# Altium footprint library 0.PCB1.PcbLib: 62 footprints (part 3 of 4)
Each footprint in its own frame and in the unit in brackets; x right, y up, seen from the top. Pads: shape width x height; smd on the part's side, far side on the other; paste and mask are expansions set on the pad; w line width, h text height; cw(c..) or ccw(c..) is an arc to the next point about the centre after c.
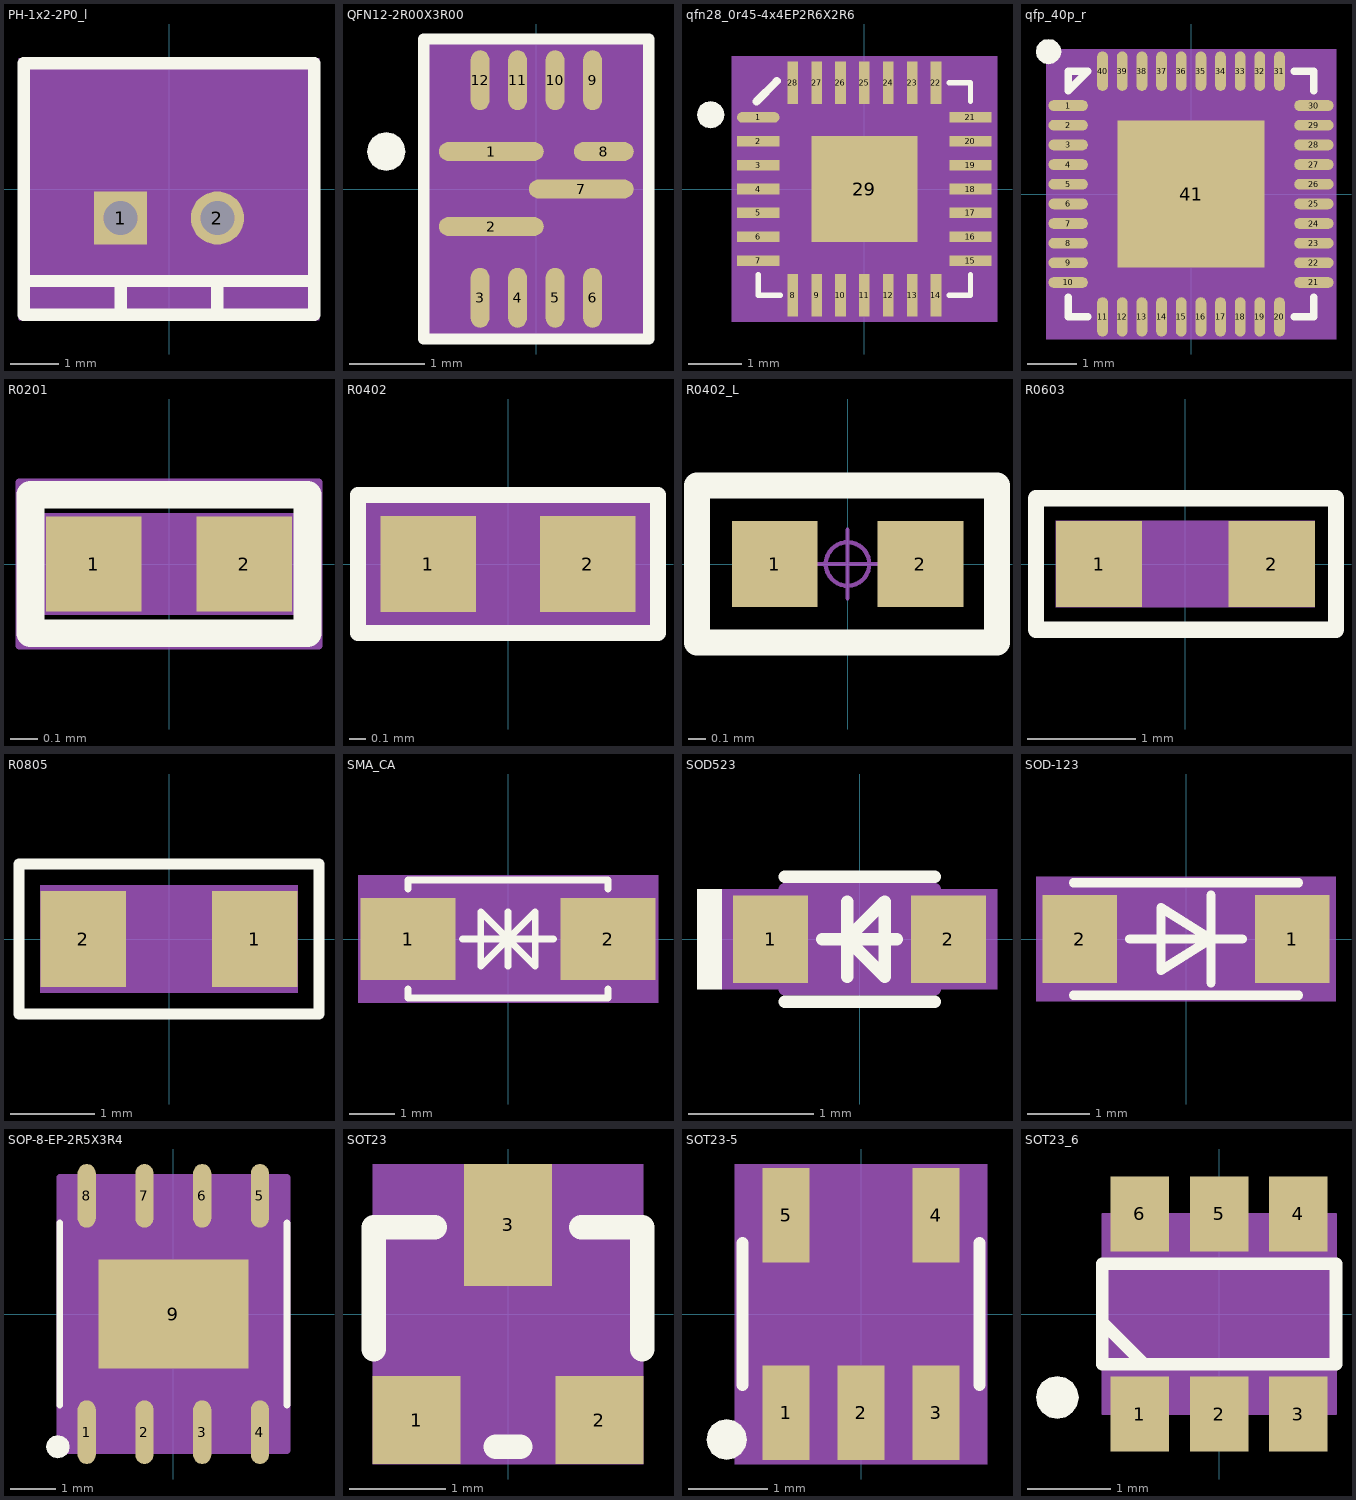
[diagram p2: the footprints below, top view; thin cyan lines are the x and y axes]

## PH-1x2-2P0_l [mm]
pads (2):
  rect 1.1x1.1 hole 0.7: 1(-1,-0.6)
  round 1.1 hole 0.7: 2(1,-0.6)
Top Overlay:
  lines w0.254: -3,-1.9 3,-1.9 ; -1,-2.6 -1,-1.9 ; 1,-2.6 1,-1.9 ; -3,-2.6 3,-2.6 3,2.6 -3,2.6 -3,-2.6
Bottom Overlay:
  lines w0.6: 0,-1.1 0,-0.1
Top 3D Body:
  region: -3.1,2.7 -3.1,-2.7 3.1,-2.7 3.1,2.7
Top Assembly:
  lines w0.025: -3.1,-2.7 3.1,-2.7 3.1,2.7 -3.1,2.7 -3.1,-2.7
3D body: height 3.81, standoff 0, extent -3.1,-2.7 3.1,2.7

## QFN12-2R00X3R00 [mm]
pads (12):
  oval 1.4x0.25 smd: 1(-0.6,0.5) 2(-0.6,-0.5) 7(0.6,0)
  oval 0.25x0.8 smd: 3(-0.75,-1.45) 4(-0.25,-1.45) 5(0.25,-1.45) 6(0.75,-1.45) 9(0.75,1.45) 10(0.25,1.45) 11(-0.25,1.45) 12(-0.75,1.45)
  oval 0.8x0.25 smd: 8(0.9,0.5)
Top Overlay:
  dashed: -1.745,0.5 -1.765,0.598 -1.82,0.68 -1.902,0.735 -2,0.755 -2.098,0.735 -2.125,0.717 -2.18,0.68 -2.235,0.598 -2.255,0.5 -2.235,0.402 -2.18,0.32 -2.125,0.283 -2.098,0.265 -2,0.245 -1.902,0.265 -1.82,0.32 -1.765,0.402
  lines w0.15: -1.5,-2 -1.5,2 1,2 1.5,2 1.5,-2 -1.5,-2
Top 3D Body:
  region: -1.5,2 -1.5,-2 1.5,-2 1.5,2
Top Assembly:
  lines w0.15: -1,-1.5 -1,1.5 1,1.5 1,-1.5 -1,-1.5
3D body: height 3.81, standoff 0, extent -1.5,-2 1.5,2

## qfn28_0r45-4x4EP2R6X2R6 [mm]
pads (29):
  oval 0.8x0.2 smd: 1(-2,1.35)
  rect 0.8x0.2 smd: 2(-2,0.9) 3(-2,0.45) 4(-2,0) 5(-2,-0.45) 6(-2,-0.9) 7(-2,-1.35) 15(2,-1.35) 16(2,-0.9) 17(2,-0.45) 18(2,0) 19(2,0.45) 20(2,0.9) 21(2,1.35)
  rect 0.2x0.8 smd: 8(-1.35,-2) 9(-0.9,-2) 10(-0.45,-2) 11(0,-2) 12(0.45,-2) 13(0.9,-2) 14(1.35,-2) 22(1.35,2) 23(0.9,2) 24(0.45,2) 25(0,2) 26(-0.45,2) 27(-0.9,2) 28(-1.35,2)
  rect 2x2 smd: 29(0,0)
Top Overlay:
  dashed: -2.645,1.4 -2.664,1.498 -2.72,1.58 -2.802,1.636 -2.9,1.655 -2.998,1.636 -3.025,1.617 -3.08,1.58 -3.136,1.498 -3.155,1.4 -3.136,1.302 -3.08,1.22 -3.025,1.183 -2.998,1.164 -2.9,1.145 -2.802,1.164 -2.72,1.22 -2.664,1.302
  lines w0.1: -2,-1.615 -2,-2 -1.587,-2 ; 1.6,-2 2,-2 2,-1.615 ; 1.6,2 2,2 2,1.657
  lines w0.152: -2.032,1.651 -1.651,2.032
Top 3D Body:
  region: -2.5,2.5 -2.5,-2.5 2.5,-2.5 2.5,2.5
Top Assembly:
  lines w0.15: -2,-2 2,-2 2,2 -2,2 -2,-2
3D body: height 3.81, standoff 0, extent -2.5,-2.5 2.5,2.5

## qfp_40p_r [mil]
pads (41):
  oval 31.5x8.66 smd: 1(-98.43,70.87) 2(-98.43,55.12) 3(-98.43,39.37) 4(-98.43,23.62) 5(-98.43,7.87) 6(-98.43,-7.87) 7(-98.43,-23.62) 8(-98.43,-39.37) 9(-98.43,-55.12) 10(-98.43,-70.87) 21(98.43,-70.87) 22(98.43,-55.12) 23(98.43,-39.37) 24(98.43,-23.62) 25(98.43,-7.87) 26(98.43,7.87) 27(98.43,23.62) 28(98.43,39.37) 29(98.43,55.12) 30(98.43,70.87)
  oval 8.66x31.5 smd: 11(-70.87,-98.43) 12(-55.12,-98.43) 13(-39.37,-98.43) 14(-23.62,-98.43) 15(-7.87,-98.43) 16(7.87,-98.43) 17(23.62,-98.43) 18(39.37,-98.43) 19(55.12,-98.43) 20(70.87,-98.43) 31(70.87,98.43) 32(55.12,98.43) 33(39.37,98.43) 34(23.62,98.43) 35(7.87,98.43) 36(-7.87,98.43) 37(-23.62,98.43) 38(-39.37,98.43) 39(-55.12,98.43) 40(-70.87,98.43)
  rect 118.11x118.11 smd: 41(0,0)
Top Overlay:
  dashed: -114.17,124.21 -118.01,123.44 -121.27,121.27 -123.44,118.01 -124.21,114.17 -123.44,110.33 -122.71,109.24 -121.27,107.08 -118.01,104.9 -114.17,104.14 -110.33,104.9 -107.08,107.08 -105.63,109.24 -104.9,110.33 -104.14,114.17 -104.9,118.01 -107.08,121.27 -110.33,123.44
  lines w5.91: -98.43,-82.68 -98.43,-98.43 -82.68,-98.43 ; 82.68,-98.43 98.43,-98.43 98.43,-82.68 ; 82.68,98.43 98.43,98.43 98.43,82.68 ; -98.43,82.68 -82.68,98.43 -98.43,98.43 -98.43,82.68
Top 3D Body:
  region: -116.14,-116.14 116.14,-116.14 116.14,116.14 -116.14,116.14
Top Assembly:
  lines w1: -98.43,-98.43 98.43,-98.43 98.43,98.43 -98.43,98.43 -98.43,-98.43
3D body: height 150, standoff 0, extent -116.14,-116.14 116.14,116.14

## R0201 [mm]
pads (2):
  rect 0.35x0.35 smd: 1(-0.275,0) 2(0.275,0)
Top Overlay:
  lines w0.102: -0.508,-0.254 -0.508,0.254 0.508,0.254 0.508,-0.254 -0.508,-0.254
Top 3D Body:
  region: -0.475,-0.175 -0.475,0.175 0.475,0.175 0.475,-0.175
Top Assembly:
  lines w0.025: -0.55,-0.3 0.55,-0.3 0.55,0.3 -0.55,0.3 -0.55,-0.3 ; -0.475,-0.175 0.475,-0.175 0.475,0.175 -0.475,0.175 -0.475,-0.175
3D body: height 3.81, standoff 0, extent -0.475,-0.175 0.475,0.175

## R0402 [mm]
pads (2):
  rect 0.599x0.599 smd: 1(-0.5,0) 2(0.5,0)
Top Overlay:
  lines w0.102: -0.94,-0.432 -0.94,0.432 0.94,0.432 0.94,-0.432 -0.94,-0.432
Top 3D Body:
  region: 0.94,0.432 0.94,-0.432 -0.94,-0.432 -0.94,0.432
Top Assembly:
  dashed: -0.94,-0.432 -0.94,0.432 0.94,0.432 0.94,-0.432
3D body: height 3.81, standoff 0, extent -0.94,-0.432 0.94,0.432

## R0402_L [mm]
pads (2):
  rect 0.5x0.5 smd: 1(-0.425,0) 2(0.425,0)
Top Overlay:
  lines w0.152: -0.878,-0.457 0.872,-0.457 0.872,0.457 -0.878,0.457 -0.878,-0.457
Mechanical 15:
  circle w0.025: c0,0 r0.127
  lines w0.025: -0.2,0 0.2,0 ; 0,-0.2 0,0.2
3D body "R0402.STEP": height 0.3, standoff 0, extent -0.5,-0.25 0.5,0.25

## R0603 [mil]
pads (2):
  rect 31.5x31.5 smd: 1(-31.5,0) 2(31.5,0)
Top Overlay:
  lines w6: -54.5,-24 55,-24 55,24 -54.5,24 -54.5,-24
Top 3D Body:
  region: -47.24,-15.75 -47.24,15.75 47.24,15.75 47.24,-15.75
3D body: height 150, standoff 0, extent -47.24,-15.75 47.24,15.75

## R0805 [mil]
pads (2):
  rect 40x45 smd: 1(40,0) 2(-40,0)
Top Overlay:
  lines w5: -70,-35 70,-35 70,35 -70,35 -70,-35
Top 3D Body:
  region: 60,-25 -60,-25 -60,25 60,25
3D body: height 150, standoff 0, extent -60,-25 60,25

## SMA_CA [mm]
pads (2):
  rect 2.1x1.8 smd: 1(-2.2,0) 2(2.2,0)
Top Overlay:
  lines w0.15: -2.2,-1.1 -2.2,-1.3 2.2,-1.3 2.2,-1.1 ; -2.2,1.1 -2.2,1.3 2.2,1.3 2.2,1.1 ; -1,0 1,0 ; 0,-0.6 0,0.6 ; 0,0 -0.6,-0.6 -0.6,0.6 0,0 ; 0,0 0.6,0.6 0.6,-0.6 0,0
Top 3D Body:
  region: -3.3,1.4 -3.3,-1.4 3.3,-1.4 3.3,1.4
Top Assembly:
  lines w0.15: -2.2,-1.25 2.2,-1.25 2.2,1.25 -2.2,1.25 -2.2,-1.25
3D body: height 3.81, standoff 0, extent -3.3,-1.4 3.3,1.4

## SOD523 [mm]
pads (2):
  rect 0.6x0.7 smd: 1(-0.71,0) 2(0.71,0)
Top Overlay:
  dashed: -1.3,0.4 -1.3,-0.4 -1.1,-0.4 -1.1,0.4
  lines w0.1: -0.6,-0.5 0.6,-0.5 ; -0.6,0.5 0.6,0.5 ; -0.3,0 0.3,0 ; -0.1,-0.3 -0.1,0.3 ; -0.1,0 0.2,0.3 0.2,-0.3 -0.1,0
Top 3D Body:
  region: -1.1,0.4 -1.1,-0.4 1.1,-0.4 1.1,0.4
Top Assembly:
  lines w0.1: -0.6,-0.4 0.6,-0.4 0.6,0.4 -0.6,0.4 -0.6,-0.4
3D body: height 3.81, standoff 0, extent -1.1,-0.4 1.1,0.4

## SOD-123 [mm]
pads (2):
  rect 1.2x1.4 smd: 1(1.7,0) 2(-1.7,0)
Top Overlay:
  lines w0.15: -1.8,-0.9 1.8,-0.9 ; -1.8,0.9 1.8,0.9 ; -0.9,0 0.9,0 ; 0.4,-0.7 0.4,0.7 ; -0.4,-0.5 0.4,0 -0.4,0.5 -0.4,-0.5
Top 3D Body:
  region: -2.4,-1 2.4,-1 2.4,1 -2.4,1
Top Assembly:
  lines w0.15: -1.8,-0.9 -1.8,0.9 1.8,0.9 1.8,-0.9 -1.8,-0.9
3D body: height 3.81, standoff 0, extent -2.4,-1 2.4,1

## SOP-8-EP-2R5X3R4 [mm]
pads (9):
  oval 0.4x1.4 smd: 1(-1.905,-2.6) 2(-0.635,-2.6) 3(0.635,-2.6) 4(1.905,-2.6) 5(1.905,2.6) 6(0.635,2.6) 7(-0.635,2.6) 8(-1.905,2.6)
  rect 3.3x2.4 smd: 9(0,0)
Top Overlay:
  dashed: -2.285,-2.921 -2.305,-2.823 -2.36,-2.741 -2.442,-2.686 -2.54,-2.666 -2.638,-2.686 -2.665,-2.704 -2.72,-2.741 -2.775,-2.823 -2.795,-2.921 -2.775,-3.019 -2.72,-3.101 -2.665,-3.138 -2.638,-3.156 -2.54,-3.176 -2.442,-3.156 -2.36,-3.101 -2.305,-3.019
  lines w0.15: -2.5,-2 -2.5,2 ; 2.5,-2 2.5,2
Top 3D Body:
  region: -2.5,3 -2.5,-3 2.5,-3 2.5,3
Top Assembly:
  lines w0.15: -2.5,-3 2.5,-3 2.5,3 -2.5,3 -2.5,-3
3D body: height 3.81, standoff 0, extent -2.5,-3 2.5,3

## SOT23 [mil]
pads (3):
  rect 36x36 smd: 1(-37.5,-43.5) 2(37.5,-43.5)
  rect 36x50 smd: 3(0,36.5)
Top Overlay:
  lines w10: -55,-14.5 -55,35.5 -30,35.5 ; -5,-54.5 5,-54.5 ; 30,35.5 55,35.5 55,-14.5
Top 3D Body:
  region: -55.5,-61.5 -55.5,61.5 55.5,61.5 55.5,-61.5
3D body: height 150, standoff 0, extent -55.5,-61.5 55.5,61.5

## SOT23-5 [mm]
pads (5):
  rect 0.599x1.199 smd: 1(-0.95,-1.25) 2(0,-1.25) 3(0.95,-1.25) 4(0.95,1.25) 5(-0.95,1.25)
Top Overlay:
  dashed: -1.702,-1.336 -1.799,-1.355 -1.882,-1.411 -1.937,-1.493 -1.957,-1.591 -1.937,-1.688 -1.919,-1.716 -1.882,-1.771 -1.799,-1.826 -1.702,-1.846 -1.604,-1.826 -1.522,-1.771 -1.485,-1.716 -1.466,-1.688 -1.447,-1.591 -1.466,-1.493 -1.522,-1.411 -1.604,-1.355
  lines w0.15: -1.5,-0.9 -1.5,0.9 ; 1.5,-0.9 1.5,0.9
Top 3D Body:
  region: -1.6,1.9 -1.6,-1.9 1.6,-1.9 1.6,1.9
Top Assembly:
  lines w0.15: -1.5,-0.85 -1.5,0.85 1.5,0.85 1.5,-0.85 -1.5,-0.85
3D body: height 3.81, standoff 0, extent -1.6,-1.9 1.6,1.9

## SOT23_6 [mm]
pads (6):
  rect 0.7x0.9 smd: 1(-0.95,-1.2) 2(0,-1.2) 3(0.95,-1.2) 4(0.95,1.2) 5(0,1.2) 6(-0.95,1.2)
Top Overlay:
  dashed: -2.195,-1 -2.176,-1.098 -2.12,-1.18 -2.038,-1.236 -1.94,-1.255 -1.842,-1.236 -1.815,-1.217 -1.76,-1.18 -1.704,-1.098 -1.685,-1 -1.704,-0.902 -1.76,-0.82 -1.815,-0.783 -1.842,-0.764 -1.94,-0.745 -2.038,-0.764 -2.12,-0.82 -2.176,-0.902
  lines w0.15: -1.4,-0.1 -0.9,-0.6 ; -1.4,-0.6 -1.4,0.6 1.4,0.6 1.4,-0.6 -1.4,-0.6
Top 3D Body:
  region: -1.4,-1.2 1.4,-1.2 1.4,1.2 -1.4,1.2
Top Assembly:
  lines w0.025: -1.4,-1.2 1.4,-1.2 1.4,1.2 -1.4,1.2 -1.4,-1.2
3D body: height 3.81, standoff 0, extent -1.4,-1.2 1.4,1.2